# Altium footprint library MAX30102.PcbLib: 1 footprints
Each footprint in its own frame and in the unit in brackets; x right, y up, seen from the top. Pads: shape width x height; smd on the part's side, far side on the other; paste and mask are expansions set on the pad; w line width, h text height; cw(c..) or ccw(c..) is an arc to the next point about the centre after c.
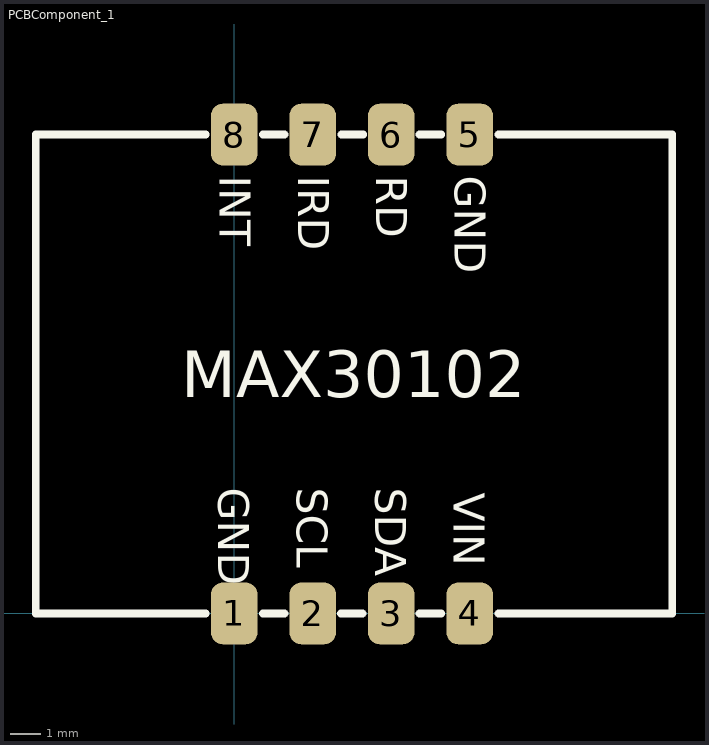
[diagram p0: the footprint, top view; thin cyan lines are the x and y axes]

## PCBComponent_1 [mm]
pads (8):
  rrect50% 1.5x2 smd paste-2539.97: 1(0,0) 2(2.54,0) 3(5.08,0) 4(7.62,0) 5(7.62,15.5) 6(5.08,15.5) 7(2.54,15.5) 8(0,15.5)
Top Overlay:
  lines w0.254: -0.925,0 -6.425,0 -6.425,15.5 -0.925,15.5 ; 0.925,0 1.625,0 ; 0.925,15.5 1.625,15.5 ; 3.45,0 4.15,0 ; 3.475,15.5 4.175,15.5 ; 6,0 6.7,0 ; 6,15.5 6.7,15.5 ; 8.55,0 14.175,0 14.175,15.5 8.55,15.5
  text "MAX30102" at -1.721,7.004 h1.5
  text "GND" at -0.521,4.071 h1
  text "SCL" at 2.021,4.071 h1
  text "SDA" at 4.562,4.071 h1
  text "VIN" at 7.104,3.904 h1
  text "GND" at 7.129,14.171 h1
  text "RD" at 4.596,14.171 h1
  text "IRD" at 2.062,14.171 h1
  text "INT" at -0.471,14.171 h1